# Altium schematic symbol library Basic.SchLib: 45 symbols
Pins are listed as number, name and electrical type; pins without a type are passive.

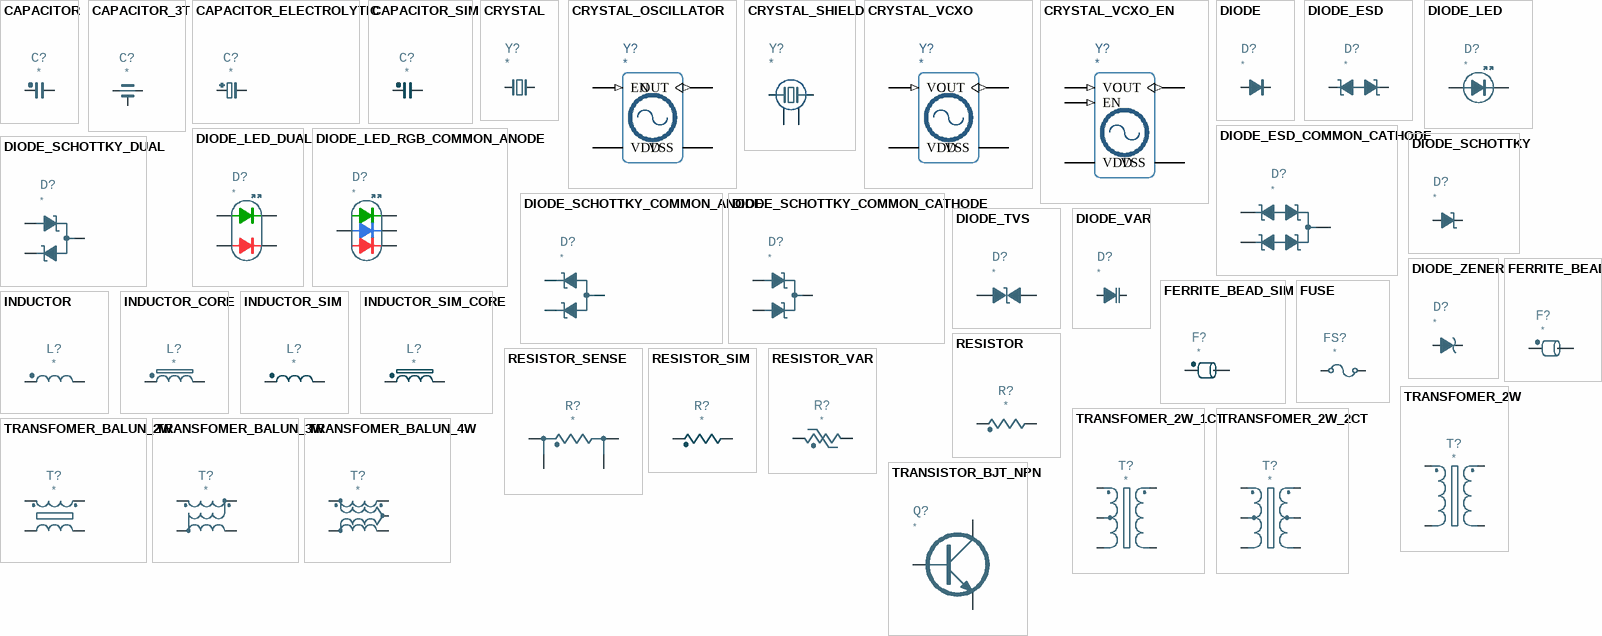
[diagram p0: symbols CAPACITOR to TRANSISTOR_BJT_NPN]

## CAPACITOR
designator C?
pins: 1, 2

## CAPACITOR_3T
designator C?
pins: 1, 2, 3

## CAPACITOR_ELECTROLYTIC
designator C?
pins: 1, 2

## CAPACITOR_SIM
designator C?
pins: 1, 2

## CRYSTAL
designator Y?
pins: 1, 2

## CRYSTAL_OSCILLATOR
designator Y?
pins: 1 EN (in), 2 VSS (power), 3 OUT (out), 4 VDD

## CRYSTAL_SHIELD
designator Y?
pins: 1, 2, 3, 4

## CRYSTAL_VCXO
designator Y?
pins: 1 VC (in), 2 VSS (power), 3 OUT (out), 4 VDD

## CRYSTAL_VCXO_EN
designator Y?
pins: 1 VC (in), 2 EN (in), 3 VSS (power), 4 OUT (out), 5 NC hidden, 6 VDD

## DIODE
designator D?
pins: A, K

## DIODE_ESD
designator D?
pins: 1, 2

## DIODE_ESD_COMMON_CATHODE
designator D?
pins: 1, 2, 3

## DIODE_LED
designator D?
pins: A, K

## DIODE_LED_DUAL
designator D?
pins: AG, AR, KG, KR

## DIODE_LED_RGB_COMMON_ANODE
designator D?
pins: A, KB, KG, KR

## DIODE_SCHOTTKY
designator D?
pins: A, K

## DIODE_SCHOTTKY_COMMON_ANODE
designator D?
pins: 1, 2, 3

## DIODE_SCHOTTKY_COMMON_CATHODE
designator D?
pins: 1, 2, 3

## DIODE_SCHOTTKY_DUAL
designator D?
pins: 1, 2, 3

## DIODE_TVS
designator D?
pins: A, K

## DIODE_VAR
designator D?
pins: A, K

## DIODE_ZENER
designator D?
pins: A, K

## FERRITE_BEAD
designator F?
pins: 1, 2

## FERRITE_BEAD_SIM
designator F?
pins: 1, 2

## FUSE
designator FS?
pins: 1, 2

## INDUCTOR
designator L?
pins: 1, 2

## INDUCTOR_CORE
designator L?
pins: 1, 2

## INDUCTOR_SIM
designator L?
pins: 1, 2

## INDUCTOR_SIM_CORE
designator L?
pins: 1, 2

## RESISTOR
designator R?
pins: 1, 2

## RESISTOR_SENSE
designator R?
pins: 1, 2, 3, 4

## RESISTOR_SIM
designator R?
pins: 1, 2

## RESISTOR_VAR
designator R?
pins: 1, 2

## TRANSFOMER_2W
designator T?
pins: 1, 3, 4, 6

## TRANSFOMER_2W_1CT
designator T?
pins: 1, 2, 3, 4, 6

## TRANSFOMER_2W_2CT
designator T?
pins: 1, 2, 3, 4, 5, 6

## TRANSFOMER_BALUN_2W
designator T?
pins: 1, 2, 3, 4

## TRANSFOMER_BALUN_3W
designator T?
pins: 1, 2, 3, 4

## TRANSFOMER_BALUN_4W
designator T?
pins: 1, 2, 3, 4, 5

## TRANSISTOR_BJT_NPN
designator Q?
pins: 1 B, 2 E, 3 C

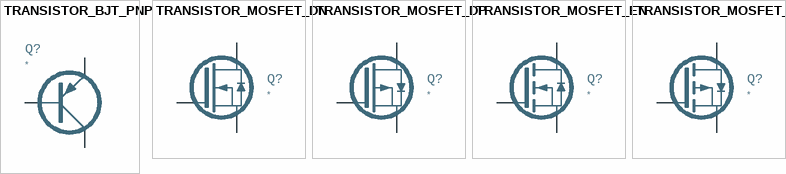
[diagram p1: symbols TRANSISTOR_BJT_PNP to TRANSISTOR_MOSFET_EP]

## TRANSISTOR_BJT_PNP
designator Q?
pins: 1 B, 2 E, 3 C

## TRANSISTOR_MOSFET_DN
designator Q?
pins: 1 G, 2 S, 3 D

## TRANSISTOR_MOSFET_DP
designator Q?
pins: 1 G, 2 S, 3 D

## TRANSISTOR_MOSFET_EN
designator Q?
pins: 1 G, 2 S, 3 D

## TRANSISTOR_MOSFET_EP
designator Q?
pins: 1 G, 2 S, 3 D